# Altium footprint library FP-SMD-Passive.PcbLib: 73 footprints (part 5 of 5)
Each footprint in its own frame and in the unit in brackets; x right, y up, seen from the top. Pads: shape width x height; smd on the part's side, far side on the other; paste and mask are expansions set on the pad; w line width, h text height; cw(c..) or ccw(c..) is an arc to the next point about the centre after c.
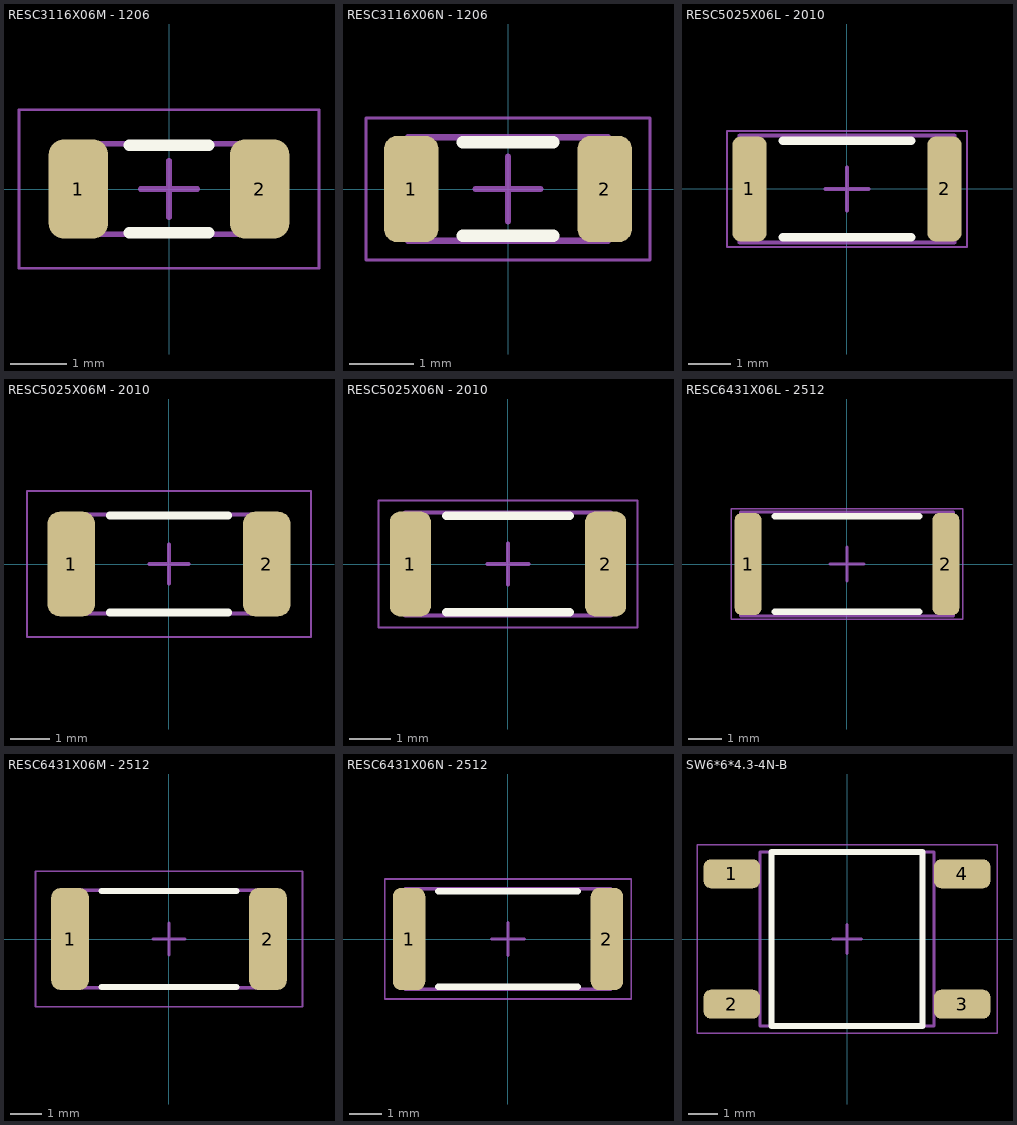
[diagram p4: the footprints below, top view; thin cyan lines are the x and y axes]

## RESC3116X06M - 1206 [mm] "Chip Resistor, 2-Leads, Body 3/10x1/60mm, IPC Low Density"
height 0.55
pads (2):
  rrect50% 1.05x1.75 smd: 1(-1.6,0) 2(1.6,0)
Top Overlay:
  lines w0.2: -0.7,-0.775 0.7,-0.775 ; -0.7,0.775 0.7,0.775
Top Courtyard:
  lines w0.05: -2.65,-1.4 -2.65,1.4 2.65,1.4 2.65,-1.4 -2.65,-1.4
  lines w0.1: -0.5,0 0.5,0 ; 0,-0.5 0,0.5
Top Assembly:
  lines w0.1: -1.55,-0.8 -1.55,0.8 1.55,0.8 1.55,-0.8 -1.55,-0.8
  text "'.Designator'" at 0.1,0.3 h0.6
3D body "RESC3116X06M.step": height 0.55, standoff 0, extent -1.55,-0.8 1.55,0.8

## RESC3116X06N - 1206 [mm] "Chip Resistor, 2-Leads, Body 3/10x1/60mm, IPC Medium Density"
height 0.55
pads (2):
  rrect50% 0.85x1.65 smd: 1(-1.5,0) 2(1.5,0)
Top Overlay:
  lines w0.2: -0.7,-0.725 0.7,-0.725 ; -0.7,0.725 0.7,0.725
Top Courtyard:
  lines w0.05: -2.2,-1.1 2.2,-1.1 2.2,1.1 -2.2,1.1 -2.2,-1.1
  lines w0.1: -0.5,0 0.5,0 ; 0,-0.5 0,0.5
Top Assembly:
  lines w0.1: -1.55,-0.8 1.55,-0.8 1.55,0.8 -1.55,0.8 -1.55,-0.8
  text "'.Designator'" at 0.1,0.3 h0.6
3D body "RESC3116X06N.step": height 0.55, standoff 0, extent -1.55,-0.8 1.55,0.8

## RESC5025X06L - 2010 [mm] "Chip Resistor, 2-Leads, Body 5/00x2/50mm, IPC High Density"
height 0.55
pads (2):
  rrect50% 0.8x2.45 smd: 1(-2.275,0) 2(2.275,0)
Top Overlay:
  lines w0.2: -1.5,-1.125 1.5,-1.125 ; -1.5,1.125 1.5,1.125
Top Courtyard:
  lines w0.05: -2.8,-1.35 2.8,-1.35 2.8,1.35 -2.8,1.35 -2.8,-1.35
  lines w0.1: -0.5,0 0.5,0 ; 0,-0.5 0,0.5
Top Assembly:
  lines w0.1: -2.5,-1.25 2.5,-1.25 2.5,1.25 -2.5,1.25 -2.5,-1.25
  text "'.Designator'" at 0.1,0.3 h0.6
3D body "RESC5025X06L.step": height 0.55, standoff 0, extent -2.5,-1.25 2.5,1.25

## RESC5025X06M - 2010 [mm] "Chip Resistor, 2-Leads, Body 5/00x2/50mm, IPC Low Density"
height 0.55
pads (2):
  rrect50% 1.2x2.65 smd: 1(-2.475,0) 2(2.475,0)
Top Overlay:
  lines w0.2: -1.5,-1.225 1.5,-1.225 ; -1.5,1.225 1.5,1.225
Top Courtyard:
  lines w0.05: -3.6,-1.85 -3.6,1.85 3.6,1.85 3.6,-1.85 -3.6,-1.85
  lines w0.1: -0.5,0 0.5,0 ; 0,-0.5 0,0.5
Top Assembly:
  lines w0.1: -2.5,-1.25 -2.5,1.25 2.5,1.25 2.5,-1.25 -2.5,-1.25
  text "'.Designator'" at 0.1,0.3 h0.6
3D body "RESC5025X06M.step": height 0.55, standoff 0, extent -2.5,-1.25 2.5,1.25

## RESC5025X06N - 2010 [mm] "Chip Resistor, 2-Leads, Body 5/00x2/50mm, IPC Medium Density"
height 0.55
pads (2):
  rrect50% 1x2.55 smd: 1(-2.375,0) 2(2.375,0)
Top Overlay:
  lines w0.2: -1.5,-1.175 1.5,-1.175 ; -1.5,1.175 1.5,1.175
Top Courtyard:
  lines w0.05: -3.15,-1.55 -3.15,1.55 3.15,1.55 3.15,-1.55 -3.15,-1.55
  lines w0.1: -0.5,0 0.5,0 ; 0,-0.5 0,0.5
Top Assembly:
  lines w0.1: -2.5,-1.25 -2.5,1.25 2.5,1.25 2.5,-1.25 -2.5,-1.25
  text "'.Designator'" at 0.1,0.3 h0.6
3D body "RESC5025X06N.step": height 0.55, standoff 0, extent -2.5,-1.25 2.5,1.25

## RESC6431X06L - 2512 [mm] "Chip Resistor, 2-Leads, Body 6/35x3/10mm, IPC High Density"
height 0.55
pads (2):
  rrect50% 0.8x3.05 smd: 1(-2.95,0) 2(2.95,0)
Top Overlay:
  lines w0.2: -2.15,-1.425 2.15,-1.425 ; -2.15,1.425 2.15,1.425
Top Courtyard:
  lines w0.05: -3.45,-1.65 -3.45,1.65 3.45,1.65 3.45,-1.65 -3.45,-1.65
  lines w0.1: -0.5,0 0.5,0 ; 0,-0.5 0,0.5
Top Assembly:
  lines w0.1: -3.175,-1.55 -3.175,1.55 3.175,1.55 3.175,-1.55 -3.175,-1.55
  text "'.Designator'" at 0.1,0.3 h0.6
3D body "RESC6431X06L.step": height 0.55, standoff 0, extent -3.175,-1.55 3.175,1.55

## RESC6431X06M - 2512 [mm] "Chip Resistor, 2-Leads, Body 6/35x3/10mm, IPC Low Density"
height 0.55
pads (2):
  rrect50% 1.2x3.25 smd: 1(-3.15,0) 2(3.15,0)
Top Overlay:
  lines w0.2: -2.15,-1.525 2.15,-1.525 ; -2.15,1.525 2.15,1.525
Top Courtyard:
  lines w0.05: -4.25,-2.15 -4.25,2.15 4.25,2.15 4.25,-2.15 -4.25,-2.15
  lines w0.1: -0.5,0 0.5,0 ; 0,-0.5 0,0.5
Top Assembly:
  lines w0.1: -3.175,-1.55 -3.175,1.55 3.175,1.55 3.175,-1.55 -3.175,-1.55
  text "'.Designator'" at 0.1,0.3 h0.6
3D body "RESC6431X06M.step": height 0.55, standoff 0, extent -3.175,-1.55 3.175,1.55

## RESC6431X06N - 2512 [mm] "Chip Resistor, 2-Leads, Body 6/35x3/10mm, IPC Medium Density"
height 0.55
pads (2):
  rrect50% 1x3.15 smd: 1(-3.05,0) 2(3.05,0)
Top Overlay:
  lines w0.2: -2.15,-1.475 2.15,-1.475 ; -2.15,1.475 2.15,1.475
Top Courtyard:
  lines w0.05: -3.8,-1.85 -3.8,1.85 3.8,1.85 3.8,-1.85 -3.8,-1.85
  lines w0.1: -0.5,0 0.5,0 ; 0,-0.5 0,0.5
Top Assembly:
  lines w0.1: -3.175,-1.55 -3.175,1.55 3.175,1.55 3.175,-1.55 -3.175,-1.55
  text "'.Designator'" at 0.1,0.3 h0.6
3D body "RESC6431X06N.step": height 0.55, standoff 0, extent -3.175,-1.55 3.175,1.55

## SW6*6*4.3-4N-B [mm] "TactSwitch, 4-Leads, Body 6/00x6/00mm, Pitch 1/27mm, IPC Medium Density"
height 5
pads (4):
  rrect50% 1.95x1 smd: 1(-3.975,2.25) 2(-3.975,-2.25) 3(3.975,-2.25) 4(3.975,2.25)
Top Overlay:
  lines w0.2: -2.6,-3 -2.6,3 2.6,3 2.6,-3 -2.6,-3
Top Courtyard:
  lines w0.05: -5.175,-3.25 -5.175,3.25 5.175,3.25 5.175,-3.25 -5.175,-3.25
  lines w0.1: -0.5,0 0.5,0 ; 0,-0.5 0,0.5
Top Assembly:
  lines w0.1: -3,-3 -3,3 3,3 3,-3 -3,-3
  text "'.Designator'" at -1.143,-0.508 h1.52
3D body "Tact Switch SMD 6x6mm-B.STEP": height 4.3, standoff 0, extent -4.5,-3.1 4.5,3.1